# Altium schematic symbol library CD4066.SchLib: 1 symbol
Pins are listed as number, name and electrical type; pins without a type are passive.

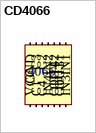
[diagram p0: symbol CD4066]

## CD4066
designator *  (value not drawn)
footprint 4066
pins: 1 IN1, 2 OUT1, 3 OUT2, 4 IN2, 5 C2, 6 C3, 7 GND, 8 IN3, 9 OUT3, 10 OUT4, 11 IN4, 12 C4, 13 C1, 14 VCC
text: 4066